# Altium schematic symbol library HTSW-102-09-G-S.SchLib: 1 symbol
Pins are listed as number, name and electrical type; pins without a type are passive.

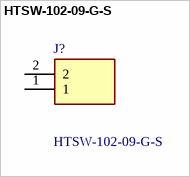
[diagram p0: symbol HTSW-102-09-G-S]

## HTSW-102-09-G-S
designator J?
Connector Header Through Hole 2 position 0.100" (2.54mm); Manufacturer_Name: SAMTEC; Geometry.Height: 8.58mm; Mouser Part Number: 200-HTSW10209GS; Mouser Price/Stock: https://www.mouser.co.uk/ProductDetail/Samtec/HTSW-102-09-G-S?qs=0lQeLiL1qyZlsgTucBxUnA%3D%3D; Manufacturer_Part_Number: HTSW-102-09-G-S; Datasheet Link: https://suddendocs.samtec.com/prints/htsw-xxx-xx-xxx-x-xx-xx-xx-mkt.pdf?_gl=1*q6shat*_gcl_aw*R0NMLjE3NTkxNDYwOTAuRUFJYUlRb2JDaE1JdDl6YzVmSDlqd01WWnBPREJ4MHBwQXNCRUFBWUFTQUFFZ0psaHZEX0J3RQ..*_gcl_au*MTc5OTcyNjQyOS4xNzUyMDczNjY4*_ga*NTM1MTc3ODU3LjE3MTI4MTU5
footprint HTSW10209GS
pins: 1, 2